# Altium footprint library BKP1608 - Ferrite Bead.PcbLib: 1 footprints
Each footprint in its own frame and in the unit in brackets; x right, y up, seen from the top. Pads: shape width x height; smd on the part's side, far side on the other; paste and mask are expansions set on the pad; w line width, h text height; cw(c..) or ccw(c..) is an arc to the next point about the centre after c.
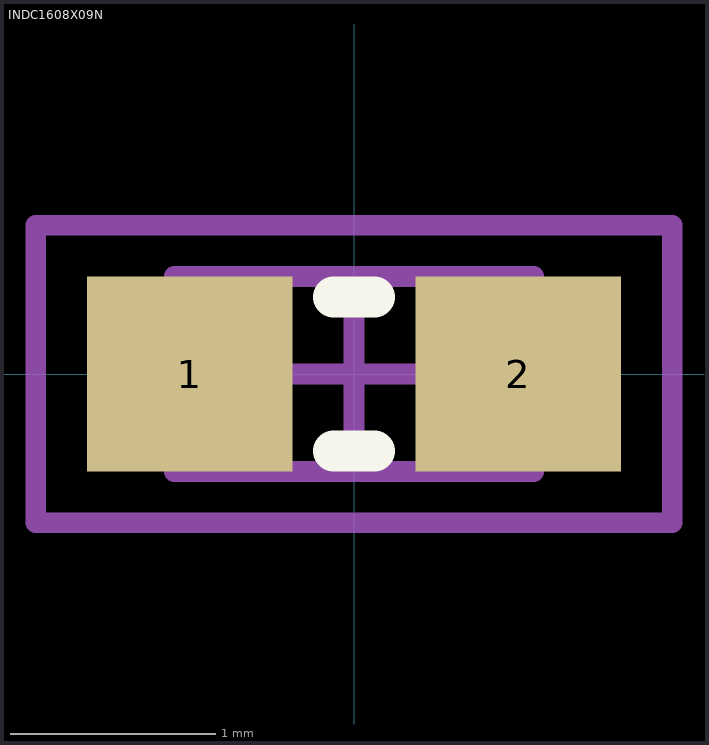
[diagram p0: the footprint, top view; thin cyan lines are the x and y axes]

## INDC1608X09N [mm] "Chip Inductor, 2-Leads, Body 1.6x0.8mm, IPC Medium Density"
height 0.95
pads (2):
  rect 1x0.95 smd: 1(-0.8,0) 2(0.8,0)
Top Overlay:
  lines w0.2: -0.1,-0.375 0.1,-0.375 ; -0.1,0.375 0.1,0.375
Mechanical 13:
  lines w0.1: -0.875,-0.475 0.875,-0.475 0.875,0.475 -0.875,0.475 -0.875,-0.475
Mechanical 15:
  lines w0.1: -0.475,0 0.475,0 ; 0,-0.475 0,0.475 ; -1.55,-0.725 1.55,-0.725 1.55,0.725 -1.55,0.725 -1.55,-0.725
3D body: height 0.95, standoff 0, extent -0.875,-0.475 0.875,0.475